# EAGLE library part 79109-22_S (library con-molex-milli-grid)
RECEPTACAL
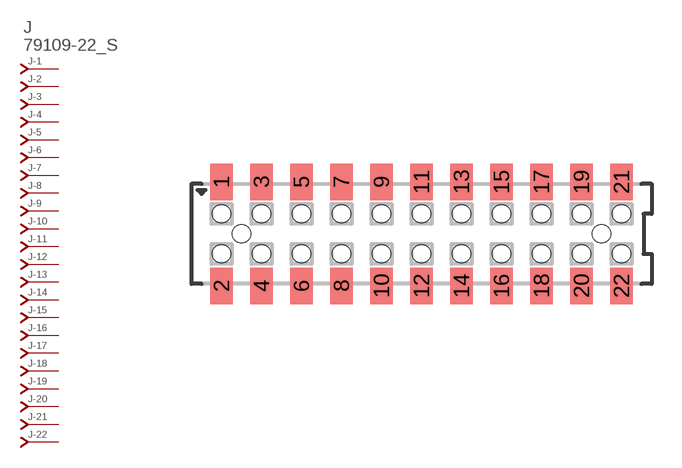
[diagram p267: symbol with the pads of 79109-22; footprint 79109-22]

Designator prefix J; gates -1=J-NV -2=J-N -3=J-N -4=J-N -5=J-N -6=J-N -7=J-N -8=J-N -9=J-N -10=J-N -11=J-N -12=J-N -13=J-N -14=J-N -15=J-N -16=J-N -17=J-N -18=J-N -19=J-N -20=J-N -21=J-N -22=J-N

## 79109-22_S  [79109-22]
1  -1:J  pas
2  -2:J  pas
3  -3:J  pas
4  -4:J  pas
5  -5:J  pas
6  -6:J  pas
7  -7:J  pas
8  -8:J  pas
9  -9:J  pas
10  -10:J  pas
11  -11:J  pas
12  -12:J  pas
13  -13:J  pas
14  -14:J  pas
15  -15:J  pas
16  -16:J  pas
17  -17:J  pas
18  -18:J  pas
19  -19:J  pas
20  -20:J  pas
21  -21:J  pas
22  -22:J  pas

## Footprint 79109-22 (pad centres in mm)
RECEPTACAL SMD Dual Row, Vertical, Pass-Thru
smd 1.12 x 1.83: 1 -10,2.6; 2 -10,-2.6; 3 -8,2.6; 4 -8,-2.6; 5 -6,2.6; 6 -6,-2.6; 7 -4,2.6; 8 -4,-2.6; 9 -2,2.6; 10 -2,-2.6; 11 0,2.6; 12 0,-2.6; 13 2,2.6; 14 2,-2.6; 15 4,2.6; 16 4,-2.6; 17 6,2.6; 18 6,-2.6; 19 8,2.6; 20 8,-2.6; 21 10,2.6; 22 10,-2.6
hole 0.914 at -9,0
hole 0.914 at -10,1
hole 0.914 at -10,-1
hole 0.914 at -8,-1
hole 0.914 at -8,1
hole 0.914 at -6,-1
hole 0.914 at -6,1
hole 0.914 at 9,0
hole 0.914 at -4,1
hole 0.914 at -4,-1
hole 0.914 at -2,1
hole 0.914 at -2,-1
hole 0.914 at 0,1
hole 0.914 at 0,-1
hole 0.914 at 2,1
hole 0.914 at 2,-1
hole 0.914 at 4,-1
hole 0.914 at 4,1
hole 0.914 at 6,1
hole 0.914 at 6,-1
hole 0.914 at 8,1
hole 0.914 at 8,-1
hole 0.914 at 10,1
hole 0.914 at 10,-1